# Altium footprint library V78XX-1000.PcbLib: 1 footprints
Each footprint in its own frame and in the unit in brackets; x right, y up, seen from the top. Pads: shape width x height; smd on the part's side, far side on the other; paste and mask are expansions set on the pad; w line width, h text height; cw(c..) or ccw(c..) is an arc to the next point about the centre after c.
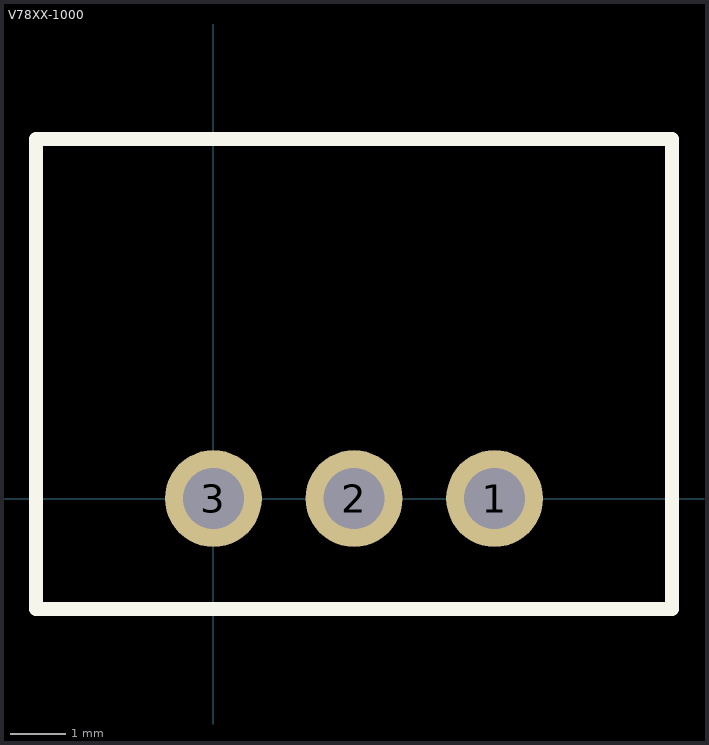
[diagram p0: the footprint, top view; thin cyan lines are the x and y axes]

## V78XX-1000 [mm] "Switching supply module"
pads (3):
  round 1.75 hole 1.1: 1(5.08,0) 2(2.54,0) 3(0,0)
Top Overlay:
  lines w0.254: -3.21,-2 8.29,-2 8.29,6.5 -3.21,6.5 -3.21,-2
Bottom Overlay:
  text "IN" at 5.664,-2.032 h0.75
  text "OUT" at 0.991,-2.057 h0.75